# Altium schematic symbol library Device.SchLib: 21 symbols
Pins are listed as number, name and electrical type; pins without a type are passive.

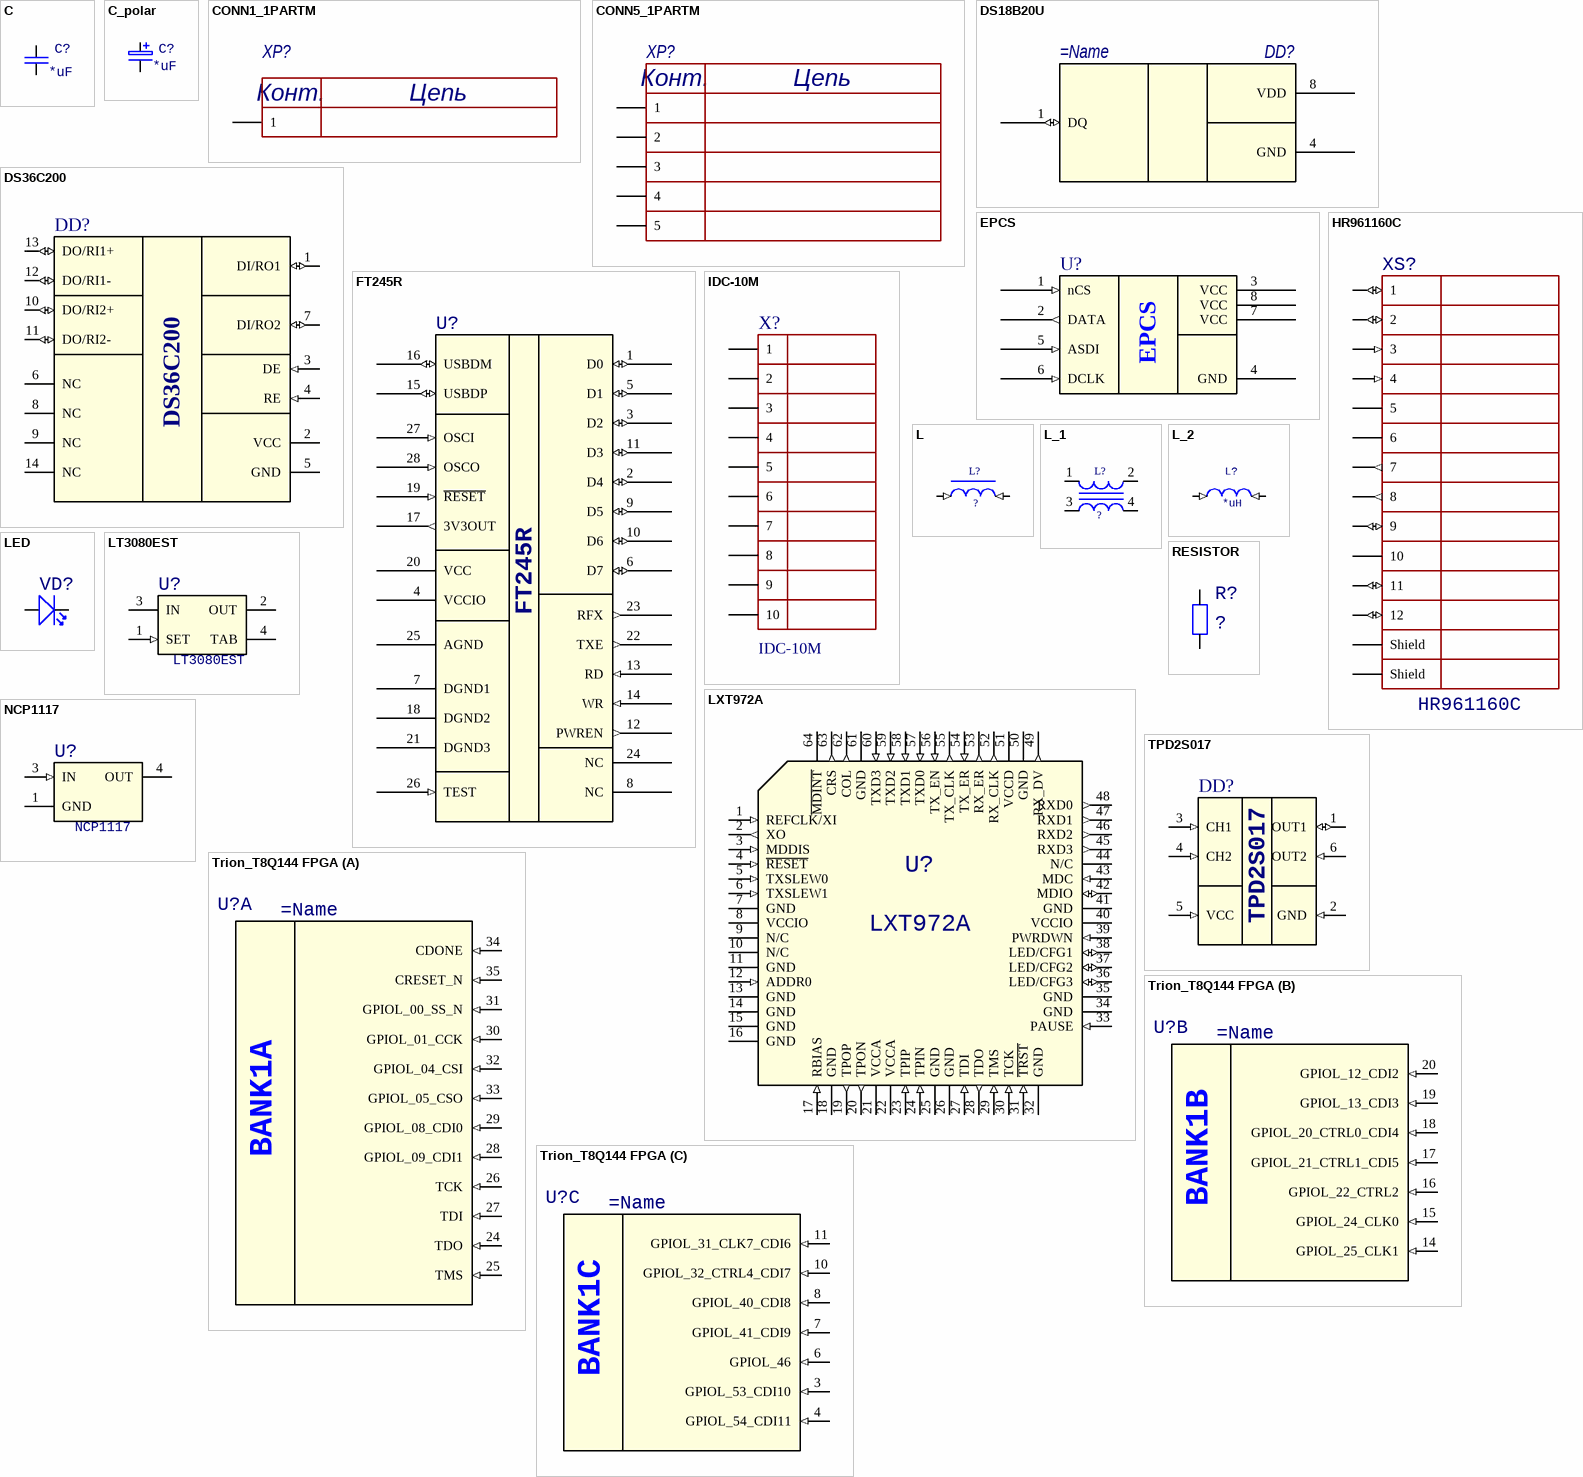
[diagram p0: symbols C to Trion_T8Q144 FPGA]

## C
designator C?, comment *uF
Non-polarised capacitor; ComponentLink1Description: Manufacturer Link; ComponentLink1URL: www.murata.com; ComponentLink2Description: Datasheet Link; ComponentLink2URL: http://www.murata.com/products/catalog/pdf/c02e.pdf; ValueSCH: *
pins: 1, 2

## C_polar
designator C?, comment *uF
Polarised capacitor; ComponentLink1Description: Manufacturer Link; ComponentLink1URL: www.murata.com; ComponentLink2Description: Datasheet Link; ComponentLink2URL: http://www.murata.com/products/catalog/pdf/c02e.pdf; ValueSCH: *
pins: 1, 2

## CONN1_1PARTM
designator XP?
Connector 1 pin male - 1 parts; ComponentLink1Description: Manufacturer Link; ComponentLink1URL: http://elsy.nov.ru/; ComponentLink2Description: Datasheet Link
pins: 1
text: Конт.; Цепь

## CONN5_1PARTM
designator XP?
Connector 1 pin male - 1 parts; ComponentLink1Description: Manufacturer Link; ComponentLink1URL: http://elsy.nov.ru/; ComponentLink2Description: Datasheet Link
pins: 1, 2, 3, 4, 5
text: Конт.; Цепь

## DS18B20U
designator DD?
Programmable Resolution 1-Wire Digital Thermometer; ComponentLink1Description: Manufacturer Link; ComponentLink1URL: www.maximintegrated.com; ComponentLink2Description: Datasheet Link; ComponentLink2URL: http://datasheets.maximintegrated.com/en/ds/DS18B20.pdf
pins: 1 DQ (io) "Data Input/Output. Open-drain 1-Wire interface pin. Also provides power to the device when used in parasite power mode.", 2 NC hidden "No Connection", 3 NC hidden "No Connection", 4 GND (power) "Ground", 5 NC hidden "No Connection", 6 NC hidden "No Connection", 7 NC hidden "No Connection", 8 VDD (power) "Optional VDD. VDD must be grounded for operation in parasite power mode."

## DS36C200
designator DD?
pins: 1 DI/RO1 (io), 2 VCC, 3 DE (in), 4 RE (in), 5 GND, 6 NC, 7 DI/RO2 (io), 8 NC, 9 NC, 10 DO/RI2+ (io), 11 DO/RI2- (io), 12 DO/RI1- (io), 13 DO/RI1+ (io), 14 NC

## EPCS
designator U?  (value not drawn)
Serial Configuration (EPCS) Devices
pins: 1 nCS (in), 2 DATA (out), 3 VCC (power), 4 GND (power), 5 ASDI (in), 6 DCLK (in), 7 VCC (power), 8 VCC (power)

## FT245R
designator U?  (value not drawn)
pins: 1 D0 (io), 2 D4 (io), 3 D2 (io), 4 VCCIO (power), 5 D1 (io), 6 D7 (io), 7 DGND1 (power), 8 NC, 9 D5 (io), 10 D6 (io), 11 D3 (io), 12 PWREN (out), 13 RD (in), 14 WR (in), 15 USBDP (io), 16 USBDM (io), 17 3V3OUT (out), 18 DGND2 (power), 19 ~{RESET} (in), 20 VCC (power), 21 DGND3 (power), 22 TXE (out), 23 RFX (out), 24 NC, 25 AGND (power), 26 TEST (in), 27 OSCI (in), 28 OSCO (in)

## HR961160C
designator XS?
pins: 1 (io), 2 (io), 3 (in), 4 (in), 5, 6, 7 (out), 8 (out), 9 (io), 10, 11 (io), 12 (io), Shield, Shield

## IDC-10M
designator X?
pins: 1, 2, 3, 4, 5, 6, 7, 8, 9, 10

## L
designator L?, comment ?
pins: 1 (in) "Информационный вход Х6", 2 (in) "Информационный вход Х6"

## L_1
designator L?, comment ?
pins: 1, 2, 3, 4

## L_2
designator L?, comment *uH
pins: 1 (in) "Информационный вход Х6", 2 (in) "Информационный вход Х6"

## LED
designator VD?
pins: +, -

## LT3080EST
designator U?
Adjustable 1.1 A Single Resistor Low Dropout Regulator, 0.3 mA Isupply, 3-pin SOT223 (ST-3), -40 to 125 degC, Pb-Free; PartNumber: LT3080EST#PBF; Manufacturer: Linear Technology; Vin Min(V): 1.2; Initial Accuracy(%): 1; Isupply(mA): 0.3; Extended Temp: E, I; Vin Max(V): 36; ComponentLink1Description: Manufacturer URL; DatasheetVersion: Rev. F; Mounting Technology: Surface Mount; ComponentLink3URL: http://cds.linear.com/docs/en/packaging/SOT_3_05-08-1630.pdf; ComponentLink3Description: Package Specification; ComponentLink1URL: http://www.linear.com/; ComponentLink2URL: http://cds.linear.com/docs/en/datasheet/3080fc.pdf; PackageVersion: Jun-10; ComponentLink2Description: Datasheet; PackageDescription: 3-Pin Plastic SOT-223, Body 3.505 x 6.505 mm, Pitch 2.3 mm; RoHS: TRUE; PackageReference: ST-3
footprint SOT-223
pins: 1 SET (in) "This pin is the error amplifier’s noninverting input and also sets the operating bias point of the circuit. A fixed 10uA current source flows out of this pin. Two resistors program IOUT as a function of the resistor rati(See Datasheet)", 2 OUT (power) "This is the power output of the device. The minimum current source value to which the device can be set is 0.5mA or the device will not regulate.", 3 IN (power) "This pin supplies power to bias internal circuitry and supply output load current. For the device to operate properly and regulate, the voltage on this pin must be 1.2V to 1.4V above the OUT pin (depending on output load (See Datasheet)", 4 TAB (power)

## LXT972A
designator U?
10/100 Ethernet Transceiver
footprint LQFP-64 (Thin QFP, 64-Leads, Body 10x10mm, Pitch 0.5mm, IPC Medium Density)
pins: 1 REFCLK/XI (in), 2 XO (out), 3 MDDIS (in), 4 ~{RESET} (in), 5 TXSLEW0 (in), 6 TXSLEW1 (in), 7 GND, 8 VCCIO, 9 N/C, 10 N/C, 11 GND, 12 ADDR0 (in), 13 GND, 14 GND, 15 GND, 16 GND, 17 RBIAS (in), 18 GND, 19 TPOP (out), 20 TPON (out), 21 VCCA, 22 VCCA, 23 TPIP (in), 24 TPIN (in), 25 GND, 26 GND, 27 TDI (in), 28 TDO (out), 29 TMS (in), 30 TCK (in), 31 ~{TRST} (in), 32 GND, 33 PAUSE (in), 34 GND, 35 GND, 36 LED/CFG3 (io), 37 LED/CFG2 (io), 38 LED/CFG1 (io), 39 PWRDWN (in), 40 VCCIO, 41 GND, 42 MDIO (io), 43 MDC (in), 44 N/C, 45 RXD3 (out), 46 RXD2 (out), 47 RXD1 (out), 48 RXD0 (out), 49 RX_DV (out), 50 GND, 51 VCCD, 52 RX_CLK (out), 53 RX_ER (out), 54 TX_ER (in), 55 TX_CLK (out), 56 TX_EN (in), 57 TXD0 (in), 58 TXD1 (in), 59 TXD2 (in), 60 TXD3 (in), 61 GND, 62 COL (out), 63 CRS (out), 64 ~{MDINT}

## NCP1117
designator U?
1.5 V,1.8 V, 1.9 V, 2.0 V, 2.5 V, 2.85 V, 3.3 V, 5.0 V,12 V
footprint TO-252
pins: 1 GND (power), 3 IN (in) "Input", 4 OUT

## RESISTOR
designator R?, comment ?
pins: 1, 2

## TPD2S017
designator DD?
pins: 1 OUT1 (io), 2 GND (in), 3 CH1 (in), 4 CH2 (in), 5 VCC (in), 6 OUT2 (in)

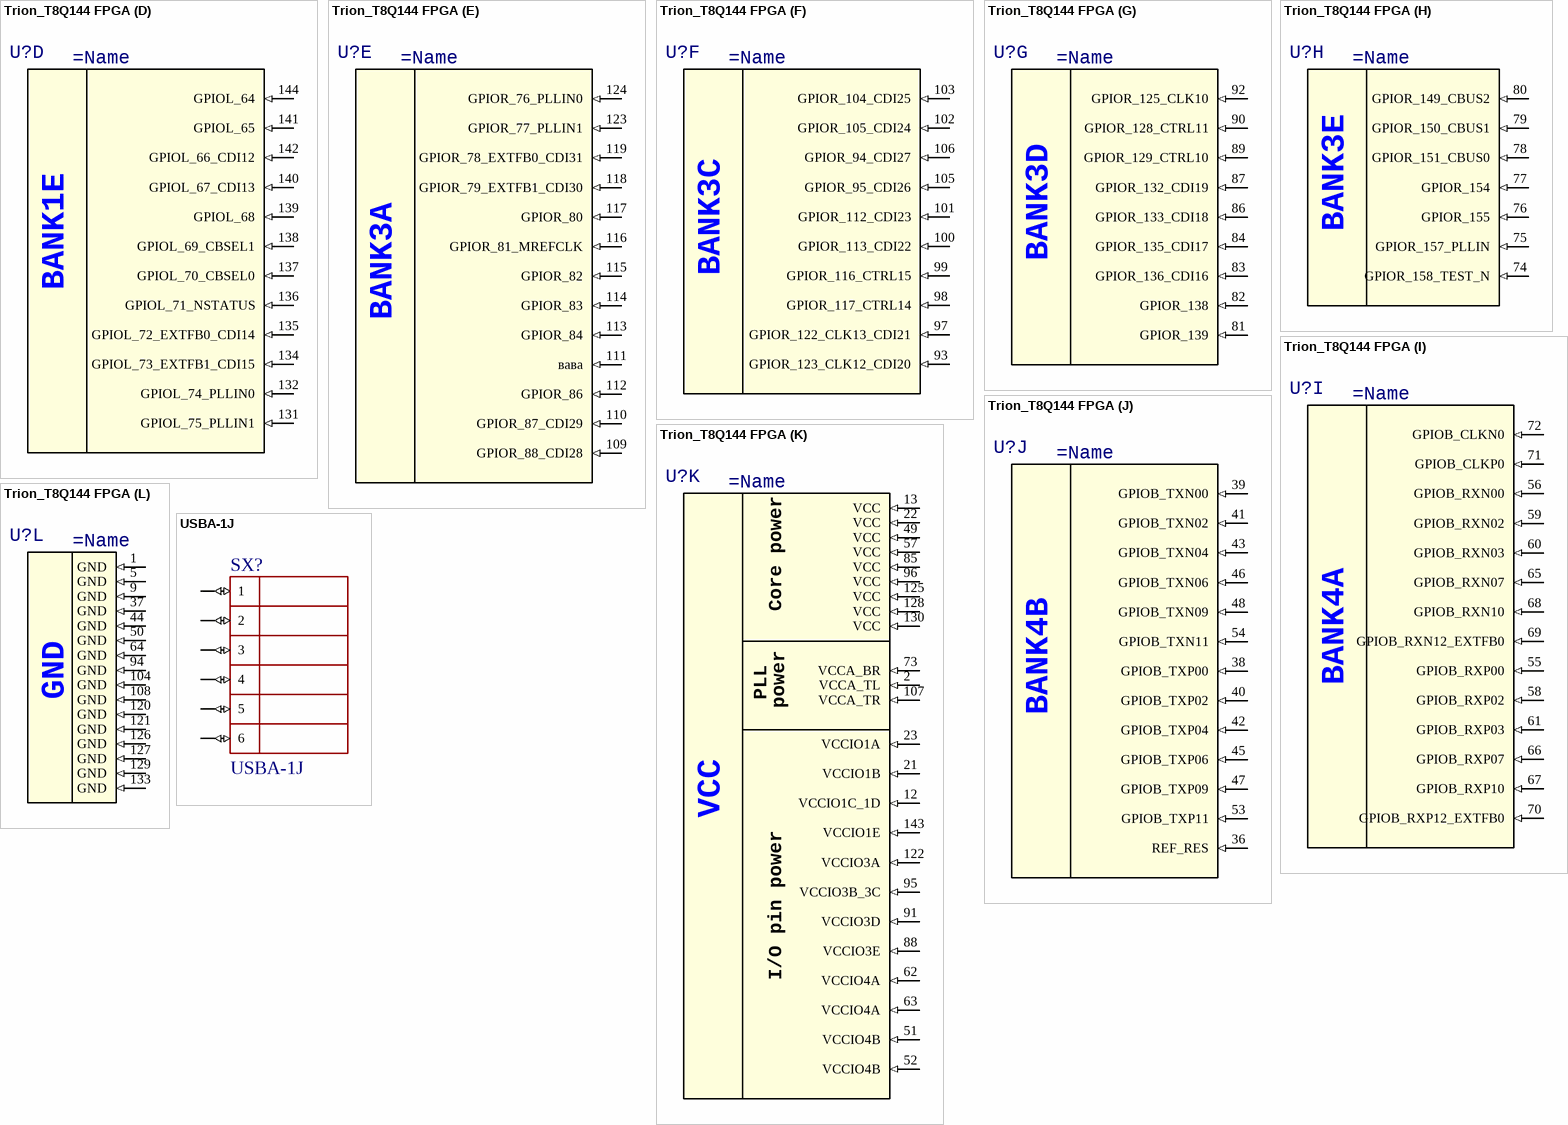
[diagram p1: symbols Trion_T8Q144 FPGA to USBA-1J]

## Trion_T8Q144 FPGA
designator U?
Trion T8 FPGA
part A pins: 24 TDO (in), 25 TMS (in), 26 TCK (in), 27 TDI (in), 28 GPIOL_09_CDI1 (in), 29 GPIOL_08_CDI0 (in), 30 GPIOL_01_CCK (in), 31 GPIOL_00_SS_N (in), 32 GPIOL_04_CSI (in), 33 GPIOL_05_CSO (in), 34 CDONE (in), 35 CRESET_N (in)
part B pins: 14 GPIOL_25_CLK1 (in), 15 GPIOL_24_CLK0 (in), 16 GPIOL_22_CTRL2 (in), 17 GPIOL_21_CTRL1_CDI5 (in), 18 GPIOL_20_CTRL0_CDI4 (in), 19 GPIOL_13_CDI3 (in), 20 GPIOL_12_CDI2 (in)
part C pins: 3 GPIOL_53_CDI10 (in), 4 GPIOL_54_CDI11 (in), 6 GPIOL_46 (in), 7 GPIOL_41_CDI9 (in), 8 GPIOL_40_CDI8 (in), 10 GPIOL_32_CTRL4_CDI7 (in), 11 GPIOL_31_CLK7_CDI6 (in)
part D pins: 131 GPIOL_75_PLLIN1 (in), 132 GPIOL_74_PLLIN0 (in), 134 GPIOL_73_EXTFB1_CDI15 (in), 135 GPIOL_72_EXTFB0_CDI14 (in), 136 GPIOL_71_NSTATUS (in), 137 GPIOL_70_CBSEL0 (in), 138 GPIOL_69_CBSEL1 (in), 139 GPIOL_68 (in), 140 GPIOL_67_CDI13 (in), 141 GPIOL_65 (in), 142 GPIOL_66_CDI12 (in), 144 GPIOL_64 (in)
part E pins: 109 GPIOR_88_CDI28 (in), 110 GPIOR_87_CDI29 (in), 111 вава (in), 112 GPIOR_86 (in), 113 GPIOR_84 (in), 114 GPIOR_83 (in), 115 GPIOR_82 (in), 116 GPIOR_81_MREFCLK (in), 117 GPIOR_80 (in), 118 GPIOR_79_EXTFB1_CDI30 (in), 119 GPIOR_78_EXTFB0_CDI31 (in), 123 GPIOR_77_PLLIN1 (in), 124 GPIOR_76_PLLIN0 (in)
part F pins: 93 GPIOR_123_CLK12_CDI20 (in), 97 GPIOR_122_CLK13_CDI21 (in), 98 GPIOR_117_CTRL14 (in), 99 GPIOR_116_CTRL15 (in), 100 GPIOR_113_CDI22 (in), 101 GPIOR_112_CDI23 (in), 102 GPIOR_105_CDI24 (in), 103 GPIOR_104_CDI25 (in), 105 GPIOR_95_CDI26 (in), 106 GPIOR_94_CDI27 (in)
part G pins: 81 GPIOR_139 (in), 82 GPIOR_138 (in), 83 GPIOR_136_CDI16 (in), 84 GPIOR_135_CDI17 (in), 86 GPIOR_133_CDI18 (in), 87 GPIOR_132_CDI19 (in), 89 GPIOR_129_CTRL10 (in), 90 GPIOR_128_CTRL11 (in), 92 GPIOR_125_CLK10 (in)
part H pins: 74 GPIOR_158_TEST_N (in), 75 GPIOR_157_PLLIN (in), 76 GPIOR_155 (in), 77 GPIOR_154 (in), 78 GPIOR_151_CBUS0 (in), 79 GPIOR_150_CBUS1 (in), 80 GPIOR_149_CBUS2 (in)
part I pins: 55 GPIOB_RXP00 (in), 56 GPIOB_RXN00 (in), 58 GPIOB_RXP02 (in), 59 GPIOB_RXN02 (in), 60 GPIOB_RXN03 (in), 61 GPIOB_RXP03 (in), 65 GPIOB_RXN07 (in), 66 GPIOB_RXP07 (in), 67 GPIOB_RXP10 (in), 68 GPIOB_RXN10 (in), 69 GPIOB_RXN12_EXTFB0 (in), 70 GPIOB_RXP12_EXTFB0 (in), 71 GPIOB_CLKP0 (in), 72 GPIOB_CLKN0 (in)
part J pins: 36 REF_RES (in), 38 GPIOB_TXP00 (in), 39 GPIOB_TXN00 (in), 40 GPIOB_TXP02 (in), 41 GPIOB_TXN02 (in), 42 GPIOB_TXP04 (in), 43 GPIOB_TXN04 (in), 45 GPIOB_TXP06 (in), 46 GPIOB_TXN06 (in), 47 GPIOB_TXP09 (in), 48 GPIOB_TXN09 (in), 53 GPIOB_TXP11 (in), 54 GPIOB_TXN11 (in)
part K pins: 2 VCCA_TL (in), 12 VCCIO1C_1D (in), 13 VCC (in), 21 VCCIO1B (in), 22 VCC (in), 23 VCCIO1A (in), 49 VCC (in), 51 VCCIO4B (in), 52 VCCIO4B (in), 57 VCC (in), 62 VCCIO4A (in), 63 VCCIO4A (in), 73 VCCA_BR (in), 85 VCC (in), 88 VCCIO3E (in), 91 VCCIO3D (in), 95 VCCIO3B_3C (in), 96 VCC (in), 107 VCCA_TR (in), 122 VCCIO3A (in), 125 VCC (in), 128 VCC (in), 130 VCC (in), 143 VCCIO1E (in)
part L pins: 1 GND (in), 5 GND (in), 9 GND (in), 37 GND (in), 44 GND (in), 50 GND (in), 64 GND (in), 94 GND (in), 104 GND (in), 108 GND (in), 120 GND (in), 121 GND (in), 126 GND (in), 127 GND (in), 129 GND (in), 133 GND (in)
part A text: BANK1A
part B text: BANK1B
part C text: BANK1C
part D text: BANK1E
part E text: BANK3A
part F text: BANK3C
part G text: BANK3D
part H text: BANK3E
part I text: BANK4A
part J text: BANK4B
part K text: Core power; PLL; power; I/O pin power

## USBA-1J
designator SX?
pins: 1 (io), 2 (io), 3 (io), 4 (io), 5 (io), 6 (io)